# Altium footprint library TOTUDU.PCBLIB: 34 footprints (part 2 of 3)
Each footprint in its own frame and in the unit in brackets; x right, y up, seen from the top. Pads: shape width x height; smd on the part's side, far side on the other; paste and mask are expansions set on the pad; w line width, h text height; cw(c..) or ccw(c..) is an arc to the next point about the centre after c.
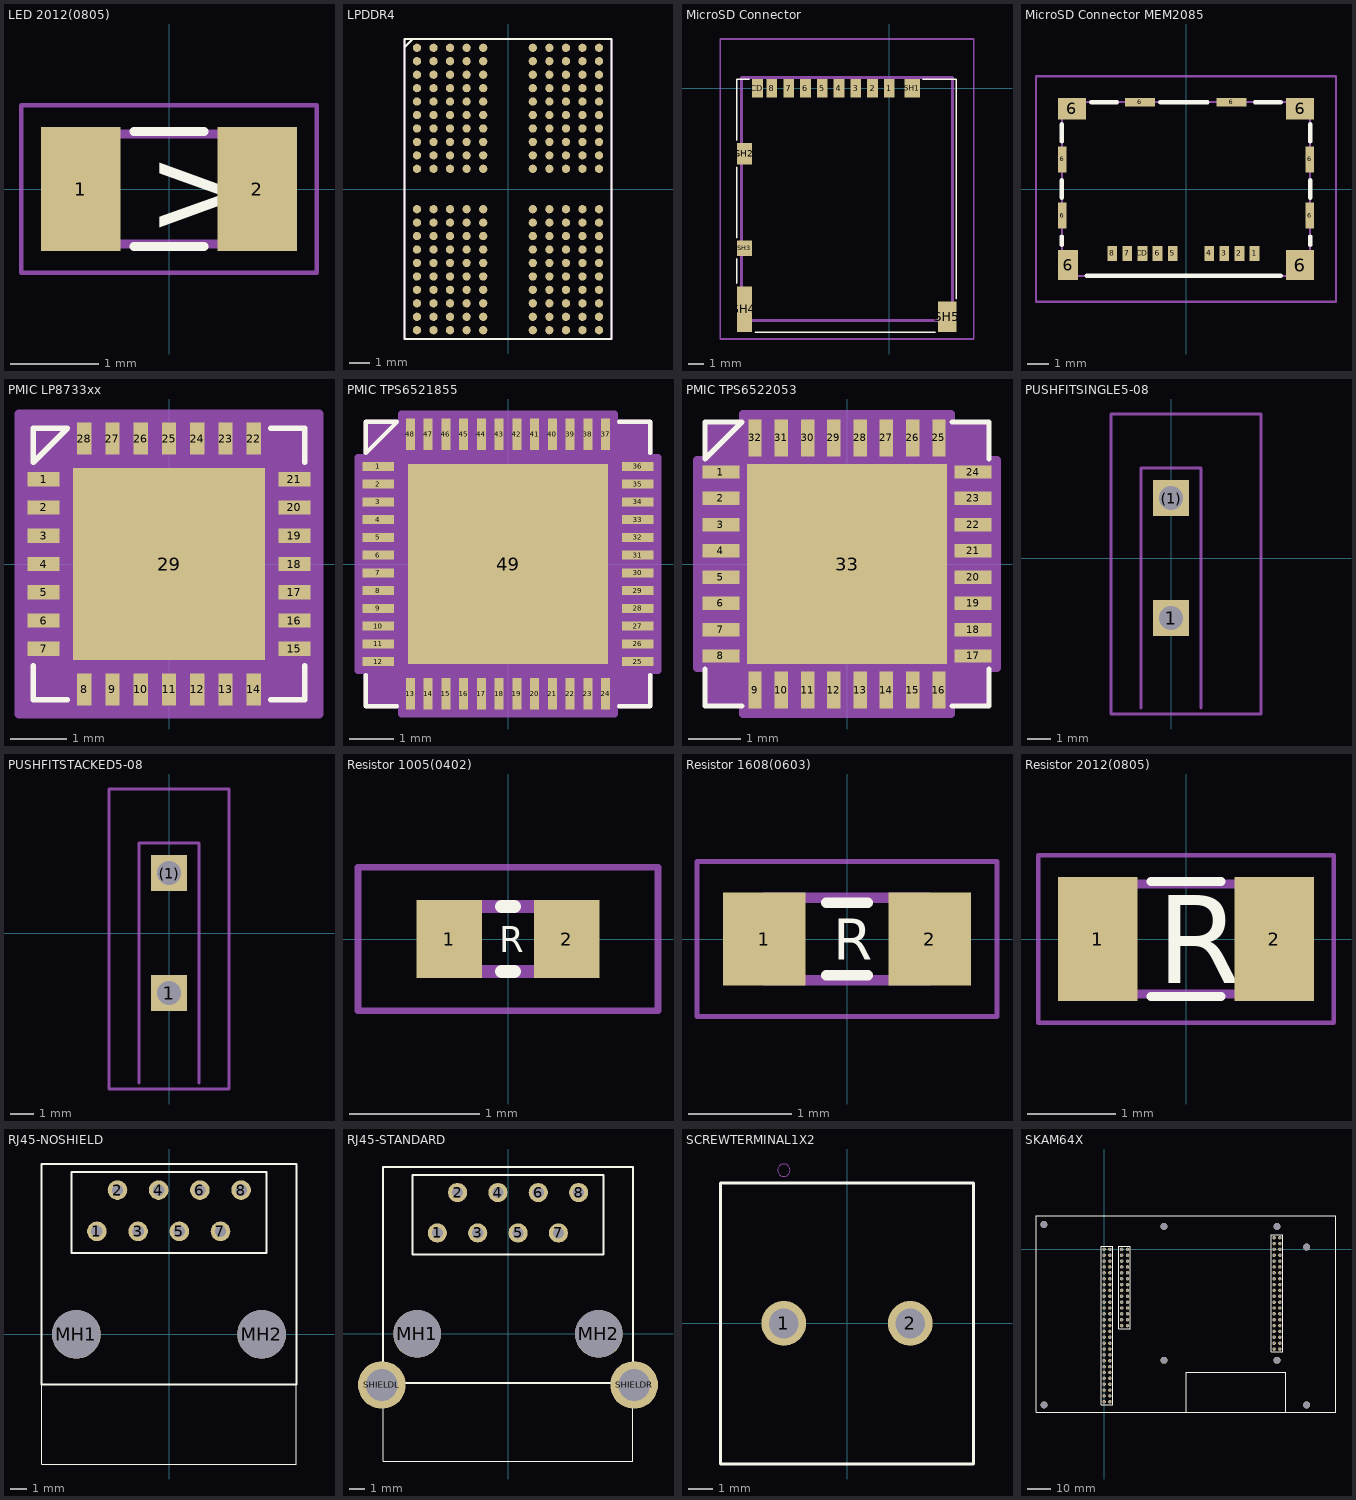
[diagram p1: the footprints below, top view; thin cyan lines are the x and y axes]

## LED 2012(0805) [mm]
pads (2):
  rect 0.9x1.4 smd mask+0: 1(-1,0) 2(1,0)
Top Overlay:
  lines w0.1: -0.4,-0.65 0.4,-0.65 ; -0.4,0.65 0.4,0.65
  text ">" at -0.25,-0.5 h1
Unrouted:
  lines w0.1: -1,-0.625 1,-0.625 1,0.625 -1,0.625 -1,-0.625
Reference:
  lines w0.05: -1.675,-0.95 1.675,-0.95 1.675,0.95 -1.675,0.95 -1.675,-0.95
3D body "LED 0805.STEP": height 1.5, standoff 0, extent -1,-0.625 1,0.625

## LPDDR4 [mm]
pads (200):
  round 0.4 smd paste+0 mask+0: A1(-4.4,6.825) A2(-3.6,6.825) A3(-2.8,6.825) A4(-2,6.825) A5(-1.2,6.825) A8(1.2,6.825) A9(2,6.825) A10(2.8,6.825) A11(3.6,6.825) A12(4.4,6.825) AA1(-4.4,-6.175) AA2(-3.6,-6.175) AA3(-2.8,-6.175) AA4(-2,-6.175) AA5(-1.2,-6.175) AA8(1.2,-6.175) AA9(2,-6.175) AA10(2.8,-6.175) AA11(3.6,-6.175) AA12(4.4,-6.175) AB1(-4.4,-6.825) AB2(-3.6,-6.825) AB3(-2.8,-6.825) AB4(-2,-6.825) AB5(-1.2,-6.825) AB8(1.2,-6.825) AB9(2,-6.825) AB10(2.8,-6.825) AB11(3.6,-6.825) AB12(4.4,-6.825) B1(-4.4,6.175) B2(-3.6,6.175) B3(-2.8,6.175) B4(-2,6.175) B5(-1.2,6.175) B8(1.2,6.175) B9(2,6.175) B10(2.8,6.175) B11(3.6,6.175) B12(4.4,6.175) C1(-4.4,5.525) C2(-3.6,5.525) C3(-2.8,5.525) C4(-2,5.525) C5(-1.2,5.525) C8(1.2,5.525) C9(2,5.525) C10(2.8,5.525) C11(3.6,5.525) C12(4.4,5.525) D1(-4.4,4.875) D2(-3.6,4.875) D3(-2.8,4.875) D4(-2,4.875) D5(-1.2,4.875) D8(1.2,4.875) D9(2,4.875) D10(2.8,4.875) D11(3.6,4.875) D12(4.4,4.875) E1(-4.4,4.225) E2(-3.6,4.225) E3(-2.8,4.225) E4(-2,4.225) E5(-1.2,4.225) E8(1.2,4.225) E9(2,4.225) E10(2.8,4.225) E11(3.6,4.225) E12(4.4,4.225) F1(-4.4,3.575) F2(-3.6,3.575) F3(-2.8,3.575) F4(-2,3.575) F5(-1.2,3.575) F8(1.2,3.575) F9(2,3.575) F10(2.8,3.575) F11(3.6,3.575) F12(4.4,3.575) G1(-4.4,2.925) G2(-3.6,2.925) G3(-2.8,2.925) G4(-2,2.925) G5(-1.2,2.925) G8(1.2,2.925) G9(2,2.925) G10(2.8,2.925) G11(3.6,2.925) G12(4.4,2.925) H1(-4.4,2.275) H2(-3.6,2.275) H3(-2.8,2.275) H4(-2,2.275) H5(-1.2,2.275) H8(1.2,2.275) H9(2,2.275) H10(2.8,2.275) H11(3.6,2.275) H12(4.4,2.275) J1(-4.4,1.625) J2(-3.6,1.625) J3(-2.8,1.625) J4(-2,1.625) J5(-1.2,1.625) J8(1.2,1.625) J9(2,1.625) J10(2.8,1.625) J11(3.6,1.625) J12(4.4,1.625) K1(-4.4,0.975) K2(-3.6,0.975) K3(-2.8,0.975) K4(-2,0.975) K5(-1.2,0.975) K8(1.2,0.975) K9(2,0.975) K10(2.8,0.975) K11(3.6,0.975) K12(4.4,0.975) N1(-4.4,-0.975) N2(-3.6,-0.975) N3(-2.8,-0.975) N4(-2,-0.975) N5(-1.2,-0.975) N8(1.2,-0.975) N9(2,-0.975) N10(2.8,-0.975) N11(3.6,-0.975) N12(4.4,-0.975) P1(-4.4,-1.625) P2(-3.6,-1.625) P3(-2.8,-1.625) P4(-2,-1.625) P5(-1.2,-1.625) P8(1.2,-1.625) P9(2,-1.625) P10(2.8,-1.625) P11(3.6,-1.625) P12(4.4,-1.625) R1(-4.4,-2.275) R2(-3.6,-2.275) R3(-2.8,-2.275) R4(-2,-2.275) R5(-1.2,-2.275) R8(1.2,-2.275) R9(2,-2.275) R10(2.8,-2.275) R11(3.6,-2.275) R12(4.4,-2.275) T1(-4.4,-2.925) T2(-3.6,-2.925) T3(-2.8,-2.925) T4(-2,-2.925) T5(-1.2,-2.925) T8(1.2,-2.925) T9(2,-2.925) T10(2.8,-2.925) T11(3.6,-2.925) T12(4.4,-2.925) U1(-4.4,-3.575) U2(-3.6,-3.575) U3(-2.8,-3.575) U4(-2,-3.575) U5(-1.2,-3.575) U8(1.2,-3.575) U9(2,-3.575) U10(2.8,-3.575) U11(3.6,-3.575) U12(4.4,-3.575) V1(-4.4,-4.225) V2(-3.6,-4.225) V3(-2.8,-4.225) V4(-2,-4.225) V5(-1.2,-4.225) V8(1.2,-4.225) V9(2,-4.225) V10(2.8,-4.225) V11(3.6,-4.225) V12(4.4,-4.225) W1(-4.4,-4.875) W2(-3.6,-4.875) W3(-2.8,-4.875) W4(-2,-4.875) W5(-1.2,-4.875) W8(1.2,-4.875) W9(2,-4.875) W10(2.8,-4.875) W11(3.6,-4.875) W12(4.4,-4.875) Y1(-4.4,-5.525) Y2(-3.6,-5.525) Y3(-2.8,-5.525) Y4(-2,-5.525) Y5(-1.2,-5.525) Y8(1.2,-5.525) Y9(2,-5.525) Y10(2.8,-5.525) Y11(3.6,-5.525) Y12(4.4,-5.525)
Top Overlay:
  lines w0.1: -4.6,7.25 -5,6.85 ; -5,6.85 -5,6.8 -5,6.85 ; -5,-7.25 5,-7.25 5,7.25 -5,7.25 -5,-7.25
tPlace:
  lines w0.1: -5,-7.25 5,-7.25 5,7.25 -5,7.25 -5,-7.25
3D body: height 0.8, standoff 0, extent -5,-7.25 5,7.25

## MicroSD Connector [mm]
pads (14):
  rect 0.7x1.2 smd mask+0: 1(0,0) 2(-1.1,0) 3(-2.2,0) 4(-3.3,0) 5(-4.4,0) 6(-5.5,0) 7(-6.6,0) 8(-7.7,0) CD(-8.65,0)
  rect 1x1.2 smd mask+0: SH1(1.5,0)
  rect 1x1.4 smd mask+0: SH2(-9.5,-4.3)
  rect 1x1 smd mask+0: SH3(-9.5,-10.5)
  rect 1x3 smd mask+0: SH4(-9.5,-14.5)
  rect 1.2x2 smd mask+0: SH5(3.8,-15)
Top Overlay:
  lines w0.1: -10,-12.8 -10,-11.2 ; -10,-9.8 -10,-5.2 ; -10,-3.4 -10,0.6 -9.2,0.6 ; -8.8,-16 3,-16 ; 2.2,0.6 4.4,0.6 4.4,-13.8
Unrouted:
  lines w0.2: -9.7,-15.25 4.15,-15.25 4.15,0.7 -9.7,0.7 -9.7,-15.25
Reference:
  lines w0.1: -11.1,-16.45 5.55,-16.45 5.55,3.225 -11.1,3.225 -11.1,-16.45
3D body "DM3AT-SF-PEJM5_40_.stp": height 1.68, standoff 0, extent -9.7,-16.028 4.15,0.122

## MicroSD Connector MEM2085 [mm]
pads (19):
  rect 0.45x0.7 smd mask+0: 1(3.18,-2.99) 2(2.48,-2.99) 3(1.78,-2.99) 4(1.08,-2.99) 5(-0.62,-2.99) 6(-1.32,-2.99) 7(-2.72,-2.99) 8(-3.42,-2.99) CD(-2.02,-2.99)
  rect 0.4x1.2 smd mask+0: 6(-5.75,-1.23) 6(-5.75,1.37) 6(5.75,-1.23) 6(5.75,1.37)
  rect 0.95x1.4 smd mask+0: 6(-5.475,-3.53)
  rect 1.3x1 smd mask+0: 6(-5.3,3.73) 6(5.3,3.73)
  rect 1.4x0.4 smd mask+0: 6(-2.14,4.03) 6(2.11,4.03)
  rect 1.3x1.4 smd mask+0: 6(5.3,-3.53)
Top Overlay:
  lines w0.2: -5.76,-2.6 -5.76,-2.2 ; -5.76,-0.4 -5.76,0.4 ; -5.76,2.2 -5.76,3 ; -4.6,-4.03 4.4,-4.03 ; -4.4,4.03 -3.2,4.03 ; -1.2,4.03 1,4.03 ; 3.2,4.03 4.4,4.03 ; 5.76,-2.6 5.76,-2.2 ; 5.76,-0.4 5.76,0.4 ; 5.76,2.2 5.76,3
Unrouted:
  lines w0.1: -5.76,-4.03 -5.76,4.03 5.76,4.03 5.76,-4.03 -5.76,-4.03
Reference:
  lines w0.1: -6.96,-5.23 -6.96,5.23 6.96,5.23 6.96,-5.23 -6.96,-5.23
3D body "MEM2085-00-115-00-A.stp": height 1.14, standoff -0.04, extent -5.842,-4.062 5.789,4.096

## PMIC LP8733xx [mm]
pads (29):
  rect 0.56x0.255 smd paste+0 mask+0: 1(-2.22,1.5) 2(-2.22,1) 3(-2.22,0.5) 4(-2.22,0) 5(-2.22,-0.5) 6(-2.22,-1) 7(-2.22,-1.5) 15(2.22,-1.5) 16(2.22,-1) 17(2.22,-0.5) 18(2.22,0) 19(2.22,0.5) 20(2.22,1) 21(2.22,1.5)
  rect 0.255x0.56 smd paste+0 mask+0: 8(-1.5,-2.22) 9(-1,-2.22) 10(-0.5,-2.22) 11(0,-2.22) 12(0.5,-2.22) 13(1,-2.22) 14(1.5,-2.22) 22(1.5,2.22) 23(1,2.22) 24(0.5,2.22) 25(0,2.22) 26(-0.5,2.22) 27(-1,2.22) 28(-1.5,2.22)
  rect 3.404x3.404 smd paste-1.702 mask+0: 29(0,0)
Top Overlay:
  lines w0.1: -2.4,-1.8 -2.4,-2.4 -1.8,-2.4 ; 1.8,-2.4 2.4,-2.4 2.4,-1.8 ; 1.8,2.4 2.4,2.4 2.4,1.8 ; -2.4,1.8 -2.4,2.4 -1.8,2.4 -2.4,1.8
Top Paste:
  region: -0.1,1.602 -1.602,1.602 -1.602,0.1 -0.1,0.1
  region: -0.1,-0.1 -1.602,-0.1 -1.602,-1.602 -0.1,-1.602
  region: 1.602,1.602 0.1,1.602 0.1,0.1 1.602,0.1
  region: 1.602,-0.1 0.1,-0.1 0.1,-1.602 1.602,-1.602
tTest:
  lines w0.025: -2.553,1.283 -1.283,2.553 ; -2.553,-2.553 2.553,-2.553 2.553,2.553 -2.553,2.553 -2.553,-2.553 ; -2.553,-1.652 -2.553,-1.348 -2.55,-1.348 -2.55,-1.652 -2.553,-1.652 ; -2.553,-1.152 -2.553,-0.848 -2.55,-0.848 -2.55,-1.152 -2.553,-1.152 ; -2.553,-0.652 -2.553,-0.348 -2.55,-0.348 -2.55,-0.652 -2.553,-0.652 ; -2.553,-0.152 -2.553,0.152 -2.55,0.152 -2.55,-0.152 -2.553,-0.152 ; -2.553,0.348 -2.553,0.652 -2.55,0.652 -2.55,0.348 -2.553,0.348 ; -2.553,0.848 -2.553,1.152 -2.55,1.152 -2.55,0.848 -2.553,0.848 ; -2.553,1.348 -2.553,1.652 -2.55,1.652 -2.55,1.348 -2.553,1.348 ; -1.652,-2.553 -1.348,-2.553 -1.348,-2.55 -1.652,-2.55 -1.652,-2.553 ; -1.652,2.55 -1.348,2.55 -1.348,2.553 -1.652,2.553 -1.652,2.55 ; -1.152,-2.553 -0.848,-2.553 -0.848,-2.55 -1.152,-2.55 -1.152,-2.553 ; -1.152,2.55 -0.848,2.55 -0.848,2.553 -1.152,2.553 -1.152,2.55 ; -0.652,-2.553 -0.348,-2.553 -0.348,-2.55 -0.652,-2.55 -0.652,-2.553 ; -0.652,2.55 -0.348,2.55 -0.348,2.553 -0.652,2.553 -0.652,2.55 ; -0.152,-2.553 0.152,-2.553 0.152,-2.55 -0.152,-2.55 -0.152,-2.553 ; -0.152,2.55 0.152,2.55 0.152,2.553 -0.152,2.553 -0.152,2.55 ; 0.348,-2.553 0.652,-2.553 0.652,-2.55 0.348,-2.55 0.348,-2.553 ; 0.348,2.55 0.652,2.55 0.652,2.553 0.348,2.553 0.348,2.55 ; 0.848,-2.553 1.152,-2.553 1.152,-2.55 0.848,-2.55 0.848,-2.553 ; 0.848,2.55 1.152,2.55 1.152,2.553 0.848,2.553 0.848,2.55 ; 1.348,-2.553 1.652,-2.553 1.652,-2.55 1.348,-2.55 1.348,-2.553 ; 1.348,2.55 1.652,2.55 1.652,2.553 1.348,2.553 1.348,2.55 ; 2.55,-1.652 2.553,-1.652 2.553,-1.348 2.55,-1.348 2.55,-1.652 ; 2.55,-1.152 2.553,-1.152 2.553,-0.848 2.55,-0.848 2.55,-1.152 ; 2.55,-0.652 2.553,-0.652 2.553,-0.348 2.55,-0.348 2.55,-0.652 ; 2.55,-0.152 2.553,-0.152 2.553,0.152 2.55,0.152 2.55,-0.152 ; 2.55,0.348 2.553,0.348 2.553,0.652 2.55,0.652 2.55,0.348 ; 2.55,0.848 2.553,0.848 2.553,1.152 2.55,1.152 2.55,0.848 ; 2.55,1.348 2.553,1.348 2.553,1.652 2.55,1.652 2.55,1.348
  text "*" at -2.257,1.115 h1.27
Unrouted:
  region: -1.729,-2.654 -2.654,-2.654 -2.654,-1.729 -2.654,1.729 -2.654,2.654 -1.729,2.654 1.729,2.654 2.654,2.654 2.654,1.729 2.654,-1.729 2.654,-2.654 1.729,-2.654
  lines w0.152: -2.654,-2.654 -2.654,-1.729 -2.654,1.729 -2.654,2.654 -1.729,2.654 1.729,2.654 2.654,2.654 2.654,1.729 2.654,-1.729 2.654,-2.654 1.729,-2.654 -1.729,-2.654 -2.654,-2.654
3D body "LP873347RHDR_TEX.step": height 1.65, standoff 0, extent -2.553,-2.553 2.553,2.553

## PMIC TPS6521855 [mil]
pads (49):
  rect 28x8 smd paste+0 mask+0: 1(-115,86.62) 2(-115,70.88) 3(-115,55.12) 4(-115,39.38) 5(-115,23.62) 6(-115,7.88) 7(-115,-7.88) 8(-115,-23.62) 9(-115,-39.38) 10(-115,-55.12) 11(-115,-70.88) 12(-115,-86.62) 25(115,-86.62) 26(115,-70.88) 27(115,-55.12) 28(115,-39.38) 29(115,-23.62) 30(115,-7.88) 31(115,7.88) 32(115,23.62) 33(115,39.38) 34(115,55.12) 35(115,70.88) 36(115,86.62)
  rect 8x28 smd paste+0 mask+0: 13(-86.62,-115) 14(-70.88,-115) 15(-55.12,-115) 16(-39.38,-115) 17(-23.62,-115) 18(-7.88,-115) 19(7.88,-115) 20(23.62,-115) 21(39.38,-115) 22(55.12,-115) 23(70.88,-115) 24(86.62,-115) 37(86.62,115) 38(70.88,115) 39(55.12,115) 40(39.38,115) 41(23.62,115) 42(7.88,115) 43(-7.88,115) 44(-23.62,115) 45(-39.38,115) 46(-55.12,115) 47(-70.88,115) 48(-86.62,115)
  rect 177x177 smd paste-88.5 mask+0: 49(0,0)
Top Overlay:
  lines w3.94: -125.98,-98.43 -125.98,-125.98 -98.43,-125.98 ; 98.43,-125.98 125.98,-125.98 125.98,-98.43 ; 98.43,125.98 125.98,125.98 125.98,98.43 ; -125.98,98.43 -98.43,125.98 -125.98,125.98 -125.98,98.43
Top Paste:
  region: 84.56,-33.44 33.44,-33.44 33.44,-84.56 84.56,-84.56
  region: 84.56,25.56 33.44,25.56 33.44,-25.56 84.56,-25.56
  region: 84.56,84.56 33.44,84.56 33.44,33.44 84.56,33.44
  region: 25.56,-33.44 -25.56,-33.44 -25.56,-84.56 25.56,-84.56
  region: 25.56,25.56 -25.56,25.56 -25.56,-25.56 25.56,-25.56
  region: 25.56,84.56 -25.56,84.56 -25.56,33.44 25.56,33.44
  region: -33.44,-33.44 -84.56,-33.44 -84.56,-84.56 -33.44,-84.56
  region: -33.44,25.56 -84.56,25.56 -84.56,-25.56 -33.44,-25.56
  region: -33.44,84.56 -84.56,84.56 -84.56,33.44 -33.44,33.44
tTest:
  lines w1: -121,71 -71,121 ; -121,-121 -121,121 121,121 121,-121 -121,-121 ; -121,-91.62 -121,-81.62 -121,-91.62 ; -121,-75.88 -121,-65.88 -121,-75.88 ; -121,-60.12 -121,-50.12 -121,-60.12 ; -121,-44.38 -121,-34.38 -121,-44.38 ; -121,-28.62 -121,-18.62 -121,-28.62 ; -121,-12.88 -121,-2.88 -121,-12.88 ; -121,2.88 -121,12.88 -121,2.88 ; -121,18.62 -121,28.62 -121,18.62 ; -121,34.38 -121,44.38 -121,34.38 ; -121,50.12 -121,60.12 -121,50.12 ; -121,65.88 -121,75.88 -121,65.88 ; -121,81.62 -121,91.62 -121,81.62 ; -91.62,-121 -81.62,-121 -91.62,-121 ; -91.62,121 -81.62,121 -91.62,121 ; -75.88,-121 -65.88,-121 -75.88,-121 ; -75.88,121 -65.88,121 -75.88,121 ; -60.12,-121 -50.12,-121 -60.12,-121 ; -60.12,121 -50.12,121 -60.12,121 ; -44.38,-121 -34.38,-121 -44.38,-121 ; -44.38,121 -34.38,121 -44.38,121 ; -28.62,-121 -18.62,-121 -28.62,-121 ; -28.62,121 -18.62,121 -28.62,121 ; -12.88,-121 -2.88,-121 -12.88,-121 ; -12.88,121 -2.88,121 -12.88,121 ; 2.88,-121 12.88,-121 2.88,-121 ; 2.88,121 12.88,121 2.88,121 ; 18.62,-121 28.62,-121 18.62,-121 ; 18.62,121 28.62,121 18.62,121 ; 34.38,-121 44.38,-121 34.38,-121 ; 34.38,121 44.38,121 34.38,121 ; 50.12,-121 60.12,-121 50.12,-121 ; 50.12,121 60.12,121 50.12,121 ; 65.88,-121 75.88,-121 65.88,-121 ; 65.88,121 75.88,121 65.88,121 ; 81.62,-121 91.62,-121 81.62,-121 ; 81.62,121 91.62,121 81.62,121 ; 121,-91.62 121,-81.62 121,-91.62 ; 121,-75.88 121,-65.88 121,-75.88 ; 121,-60.12 121,-50.12 121,-60.12 ; 121,-44.38 121,-34.38 121,-44.38 ; 121,-28.62 121,-18.62 121,-28.62 ; 121,-12.88 121,-2.88 121,-12.88 ; 121,2.88 121,12.88 121,2.88 ; 121,18.62 121,28.62 121,18.62 ; 121,34.38 121,44.38 121,34.38 ; 121,50.12 121,60.12 121,50.12 ; 121,65.88 121,75.88 121,65.88 ; 121,81.62 121,91.62 121,81.62
  text "*" at -113.5,69.5 h50
Unrouted:
  region: -94.62,-125 -125,-125 -125,-94.62 -133,-94.62 -133,94.62 -125,94.62 -125,125 -94.62,125 -94.62,133 94.62,133 94.62,125 125,125 125,94.62 133,94.62 133,-94.62 125,-94.62 125,-125 94.62,-125 94.62,-133 -94.62,-133
  lines w6: -133,-94.62 -133,94.62 -125,94.62 -125,125 -94.62,125 -94.62,133 94.62,133 94.62,125 125,125 125,94.62 133,94.62 133,-94.62 125,-94.62 125,-125 94.62,-125 94.62,-133 -94.62,-133 -94.62,-125 -125,-125 -125,-94.62 -133,-94.62
3D body "PVQFN48_RSL_TEX.step": height 39.09, standoff 0, extent -120.98,-120.98 120.98,120.98

## PMIC TPS6522053 [mm]
pads (33):
  rect 0.708x0.255 smd paste+0 mask+0: 1(-2.399,1.75) 2(-2.399,1.25) 3(-2.399,0.75) 4(-2.399,0.25) 5(-2.399,-0.25) 6(-2.399,-0.75) 7(-2.399,-1.25) 8(-2.399,-1.75) 17(2.399,-1.75) 18(2.399,-1.25) 19(2.399,-0.75) 20(2.399,-0.25) 21(2.399,0.25) 22(2.399,0.75) 23(2.399,1.25) 24(2.399,1.75)
  rect 0.255x0.708 smd paste+0 mask+0: 9(-1.75,-2.399) 10(-1.25,-2.399) 11(-0.75,-2.399) 12(-0.25,-2.399) 13(0.25,-2.399) 14(0.75,-2.399) 15(1.25,-2.399) 16(1.75,-2.399) 25(1.75,2.399) 26(1.25,2.399) 27(0.75,2.399) 28(0.25,2.399) 29(-0.25,2.399) 30(-0.75,2.399) 31(-1.25,2.399) 32(-1.75,2.399)
  rect 3.81x3.81 smd paste+0 mask+0: 33(0,0)
Top Overlay:
  lines w0.1: -2.7,-2 -2.7,-2.7 -2,-2.7 ; 2,-2.7 2.7,-2.7 2.7,-2 ; 2,2.7 2.7,2.7 2.7,2 ; -2.7,2 -2.7,2.7 -2,2.7 -2.7,2
tTest:
  lines w0.025: -2.553,1.283 -1.283,2.553 ; -2.553,-2.553 2.553,-2.553 2.553,2.553 -2.553,2.553 -2.553,-2.553 ; -2.553,-1.903 -2.553,-1.598 -2.553,-1.903 ; -2.553,-1.403 -2.553,-1.098 -2.553,-1.403 ; -2.553,-0.903 -2.553,-0.598 -2.553,-0.903 ; -2.553,-0.402 -2.553,-0.098 -2.553,-0.402 ; -2.553,0.098 -2.553,0.402 -2.553,0.098 ; -2.553,0.598 -2.553,0.903 -2.553,0.598 ; -2.553,1.098 -2.553,1.403 -2.553,1.098 ; -2.553,1.598 -2.553,1.903 -2.553,1.598 ; -1.903,-2.553 -1.598,-2.553 -1.903,-2.553 ; -1.903,2.553 -1.598,2.553 -1.903,2.553 ; -1.403,-2.553 -1.098,-2.553 -1.403,-2.553 ; -1.403,2.553 -1.098,2.553 -1.403,2.553 ; -0.903,-2.553 -0.598,-2.553 -0.903,-2.553 ; -0.903,2.553 -0.598,2.553 -0.903,2.553 ; -0.402,-2.553 -0.098,-2.553 -0.402,-2.553 ; -0.402,2.553 -0.098,2.553 -0.402,2.553 ; 0.098,-2.553 0.402,-2.553 0.098,-2.553 ; 0.098,2.553 0.402,2.553 0.098,2.553 ; 0.598,-2.553 0.903,-2.553 0.598,-2.553 ; 0.598,2.553 0.903,2.553 0.598,2.553 ; 1.098,-2.553 1.403,-2.553 1.098,-2.553 ; 1.098,2.553 1.403,2.553 1.098,2.553 ; 1.598,-2.553 1.903,-2.553 1.598,-2.553 ; 1.598,2.553 1.903,2.553 1.598,2.553 ; 2.553,-1.903 2.553,-1.598 2.553,-1.903 ; 2.553,-1.403 2.553,-1.098 2.553,-1.403 ; 2.553,-0.903 2.553,-0.598 2.553,-0.903 ; 2.553,-0.402 2.553,-0.098 2.553,-0.402 ; 2.553,0.098 2.553,0.402 2.553,0.098 ; 2.553,0.598 2.553,0.903 2.553,0.598 ; 2.553,1.098 2.553,1.403 2.553,1.098 ; 2.553,1.598 2.553,1.903 2.553,1.598
  text "*" at -1.575,1.115 h1.27
Unrouted:
  region: -1.979,-2.654 -2.654,-2.654 -2.654,-1.979 -2.854,-1.979 -2.854,1.979 -2.654,1.979 -2.654,2.654 -1.979,2.654 -1.979,2.854 1.979,2.854 1.979,2.654 2.654,2.654 2.654,1.979 2.854,1.979 2.854,-1.979 2.654,-1.979 2.654,-2.654 1.979,-2.654 1.979,-2.854 -1.979,-2.854
  lines w0.152: -2.854,-1.979 -2.654,-1.979 -2.654,-2.654 -1.979,-2.654 -1.979,-2.854 1.979,-2.854 1.979,-2.654 2.654,-2.654 2.654,-1.979 2.854,-1.979 2.854,1.979 2.654,1.979 2.654,2.654 1.979,2.654 1.979,2.854 -1.979,2.854 -1.979,2.654 -2.654,2.654 -2.654,1.979 -2.854,1.979 -2.854,-1.979
3D body "VQFN32_RHB_TEX.step": height 0.99, standoff 0, extent -2.553,-2.553 2.553,2.553

## PUSHFITSINGLE5-08 [mm]
pads (2):
  rect 1.508x1.508 / inner round 1.393 / far side rect 1.508x1.508 hole 1: 1(0,-2.54) (1)(0,2.54)
tPlace:
  lines w0.127: -1.27,-6.35 -1.27,3.81 1.27,3.81 1.27,-6.35 ; -2.54,-6.604 -2.54,6.096 3.81,6.096 3.81,-6.604 -2.54,-6.604

## PUSHFITSTACKED5-08 [mm]
pads (2):
  rect 1.508x1.508 / inner round 1.393 / far side rect 1.508x1.508 hole 1: 1(0,-2.54) (1)(0,2.54)
tPlace:
  lines w0.127: -1.27,-6.35 -1.27,3.81 1.27,3.81 1.27,-6.35 ; -2.54,-6.604 -2.54,6.096 2.54,6.096 2.54,-6.604 -2.54,-6.604

## Resistor 1005(0402) [mm]
pads (2):
  rect 0.5x0.6 smd mask+0: 1(-0.45,0) 2(0.45,0)
Top Overlay:
  lines w0.1: -0.05,-0.25 0.05,-0.25 ; -0.05,0.25 0.05,0.25
  text "R" at -0.067,-0.1 h0.2
tTest:
  lines w0.1: -0.5,-0.25 -0.5,0.25 0.5,0.25 0.5,-0.25 -0.5,-0.25
Unrouted:
  lines w0.05: -1.15,-0.55 -1.15,0.55 1.15,0.55 1.15,-0.55 -1.15,-0.55
3D body "Resistor 0402.STEP": height 0.35, standoff 0, extent -0.5,-0.25 0.5,0.25

## Resistor 1608(0603) [mm]
pads (2):
  rect 0.8x0.9 smd mask+0: 1(-0.8,0) 2(0.8,0)
Top Overlay:
  lines w0.1: -0.2,-0.35 0.2,-0.35 ; -0.2,0.35 0.2,0.35
  text "R" at -0.133,-0.2 h0.4
tTest:
  lines w0.1: -0.8,-0.4 -0.8,0.4 0.8,0.4 0.8,-0.4 -0.8,-0.4
Unrouted:
  lines w0.05: -1.45,-0.75 -1.45,0.75 1.45,0.75 1.45,-0.75 -1.45,-0.75
3D body "Resistor 0603.STEP": height 0.43, standoff -0.03, extent -0.8,-0.4 0.8,0.4

## Resistor 2012(0805) [mm]
pads (2):
  rect 0.9x1.4 smd mask+0: 1(-1,0) 2(1,0)
Top Overlay:
  lines w0.1: -0.4,-0.65 0.4,-0.65 ; -0.4,0.65 0.4,0.65
  text "R" at -0.333,-0.5 h1
tTest:
  lines w0.1: -1,-0.625 -1,0.625 1,0.625 1,-0.625 -1,-0.625
Unrouted:
  lines w0.05: -1.675,-0.95 -1.675,0.95 1.675,0.95 1.675,-0.95 -1.675,-0.95
3D body "Resistor 0805.STEP": height 0.5, standoff 0, extent -1,-0.625 1,0.625

## RJ45-NOSHIELD [mm]
pads (10):
  round 1.208 hole 0.7: 1(-4.445,6.35) 2(-3.175,8.89) 3(-1.905,6.35) 4(-0.635,8.89) 5(0.635,6.35) 6(1.905,8.89) 7(3.175,6.35) 8(4.445,8.89)
  round 3 hole 3 unplated: MH1(-5.715,0) MH2(5.715,0)
Top Overlay:
  lines w0: -7.85,-3.095 -7.85,-8 7.85,-8 7.85,-3.095
  lines w0.127: -7.85,-3.095 7.85,-3.095 7.85,10.5 -7.85,10.5 -7.85,-3.095 ; -6,5 -6,10 6,10 6,5 -6,5

## RJ45-STANDARD [mm]
pads (12):
  round 1.208 hole 0.7: 1(-4.445,6.35) 2(-3.175,8.89) 3(-1.905,6.35) 4(-0.635,8.89) 5(0.635,6.35) 6(1.905,8.89) 7(3.175,6.35) 8(4.445,8.89)
  round 3 hole 3 unplated: MH1(-5.715,0) MH2(5.715,0)
  round 3 hole 2: SHIELDL(-7.938,-3.21) SHIELDR(7.938,-3.21)
Top Overlay:
  lines w0: -7.85,-3.095 -7.85,-8 7.85,-8 7.85,-3.095
  lines w0.127: -7.85,-3.095 -7.85,10.5 7.85,10.5 7.85,-3.095 -7.85,-3.095 ; -6,5 6,5 6,10 -6,10 -6,5

## SCREWTERMINAL1X2 [mm]
pads (2):
  round 1.8 hole 1.2: 1(-2.54,0) 2(2.54,0)
Top Overlay:
  lines w0.12: -5.08,-5.65 -5.08,5.65 ; -5.08,-5.65 5.08,-5.65 ; -5.08,-5.65 -5.08,5.65 ; -5.08,-5.65 5.08,-5.65 ; -5.08,5.65 5.08,5.65 ; -5.08,5.65 5.08,5.65 ; 5.08,-5.65 5.08,5.65 ; 5.08,-5.65 5.08,5.65
tPlace:
  circle w0: c-2.54,6.154 r0.25

## SKAM64X [mm]
pads (130):
  round 1.508 hole 1: MCU1(7.62,0) MCU2(7.62,-2.54) MCU3(7.62,-5.08) MCU4(7.62,-7.62) MCU5(7.62,-10.16) MCU6(7.62,-12.7) MCU7(7.62,-15.24) MCU8(7.62,-17.78) MCU9(7.62,-20.32) MCU10(7.62,-22.86) MCU11(7.62,-25.4) MCU12(7.62,-27.94) MCU13(7.62,-30.48) MCU14(7.62,-33.02) MCU15(10.16,0) MCU16(10.16,-2.54) MCU17(10.16,-5.08) MCU18(10.16,-7.62) MCU19(10.16,-10.16) MCU20(10.16,-12.7) MCU21(10.16,-15.24) MCU22(10.16,-17.78) MCU23(10.16,-20.32) MCU24(10.16,-22.86) MCU25(10.16,-25.4) MCU26(10.16,-27.94) MCU27(10.16,-30.48) MCU28(10.16,-33.02) PI1(73.66,5.08) PI2(73.66,2.54) PI3(73.66,0) PI4(73.66,-2.54) PI5(73.66,-5.08) PI6(73.66,-7.62) PI7(73.66,-10.16) PI8(73.66,-12.7) PI9(73.66,-15.24) PI10(73.66,-17.78) PI11(73.66,-20.32) PI12(73.66,-22.86) PI13(73.66,-25.4) PI14(73.66,-27.94) PI15(73.66,-30.48) PI16(73.66,-33.02) PI17(73.66,-35.56) PI18(73.66,-38.1) PI19(73.66,-40.64) PI20(73.66,-43.18) PI21(76.2,5.08) PI22(76.2,2.54) PI23(76.2,0) PI24(76.2,-2.54) PI25(76.2,-5.08) PI26(76.2,-7.62) PI27(76.2,-10.16) PI28(76.2,-12.7) PI29(76.2,-15.24) PI30(76.2,-17.78) PI31(76.2,-20.32) PI32(76.2,-22.86) PI33(76.2,-25.4) PI34(76.2,-27.94) PI35(76.2,-30.48) PI36(76.2,-33.02) PI37(76.2,-35.56) PI38(76.2,-38.1) PI39(76.2,-40.64) PI40(76.2,-43.18) PRU1(0,0) PRU2(0,-2.54) PRU3(0,-5.08) PRU4(0,-7.62) PRU5(0,-10.16) PRU6(0,-12.7) PRU7(0,-15.24) PRU8(0,-17.78) PRU9(0,-20.32) PRU10(0,-22.86) PRU11(0,-25.4) PRU12(0,-27.94) PRU13(0,-30.48) PRU14(0,-33.02) PRU15(0,-35.56) PRU16(0,-38.1) PRU17(0,-40.64) PRU18(0,-43.18) PRU19(0,-45.72) PRU20(0,-48.26) PRU21(0,-50.8) PRU22(0,-53.34) PRU23(0,-55.88) PRU24(0,-58.42) PRU25(0,-60.96) PRU26(0,-63.5) PRU27(0,-66.04) PRU28(2.54,0) PRU29(2.54,-2.54) PRU30(2.54,-5.08) PRU31(2.54,-7.62) PRU32(2.54,-10.16) PRU33(2.54,-12.7) PRU34(2.54,-15.24) PRU35(2.54,-17.78) PRU36(2.54,-20.32) PRU37(2.54,-22.86) PRU38(2.54,-25.4) PRU39(2.54,-27.94) PRU40(2.54,-30.48) PRU41(2.54,-33.02) PRU42(2.54,-35.56) PRU43(2.54,-38.1) PRU44(2.54,-40.64) PRU45(2.54,-43.18) PRU46(2.54,-45.72) PRU47(2.54,-48.26) PRU48(2.54,-50.8) PRU49(2.54,-53.34) PRU50(2.54,-55.88) PRU51(2.54,-58.42) PRU52(2.54,-60.96) PRU53(2.54,-63.5) PRU54(2.54,-66.04)
  round 3 hole 3 unplated: MH1(-26,-67.4) MH2(-26.1,10.8) MH3(87.8,-67.4) MH4(87.8,1) MH5(74.93,9.95) MH6(74.93,-48.05) MH7(25.93,9.95) MH8(25.93,-48.05)
Top Overlay:
  lines w0.1: 35.55,-70.5 78.75,-70.5 ; 35.55,-70.5 35.55,-53.35 78.75,-53.35 78.75,-70.5 ; 35.55,-70.5 -29.5,-70.5 -29.5,14.5 100.5,14.5 100.5,-70.5 78.75,-70.5 ; -1.27,-67.31 3.81,-67.31 3.81,1.27 -1.27,1.27 -1.27,-67.31 ; 6.35,-34.29 11.43,-34.29 11.43,1.27 6.35,1.27 6.35,-34.29 ; 72.39,-44.45 77.47,-44.45 77.47,6.35 72.39,6.35 72.39,-44.45